# EAGLE library part XC18V01_VQ44 (library xilinx-xc18v)
xc18v01_vq44 edit this description Auto generated by make-symbol-device-package-bsdl.ulp Rev. 26 Source: xc18v01_vq44.bsd
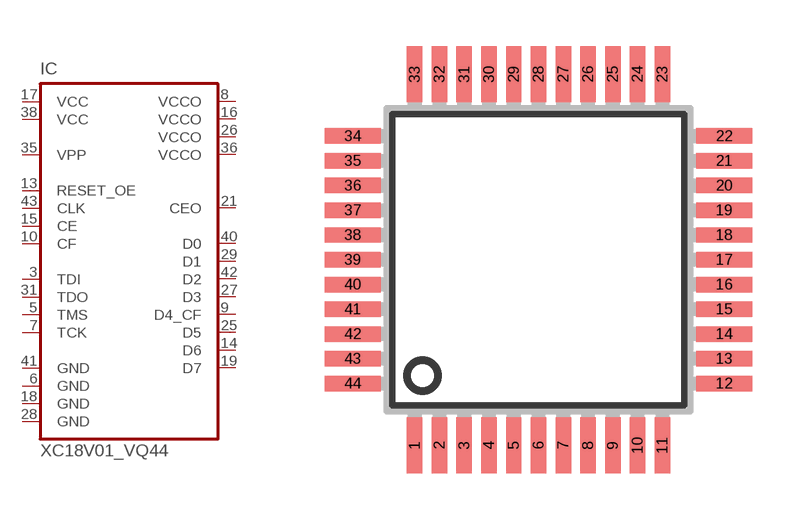
[diagram p2: symbol with the pads of SQFP-S-10X10-44; footprint SQFP-S-10X10-44]

Designator prefix IC

## XC18V01_VQ44 (OC_FARNELL: unknown; OC_NEWARK: unknown)  [SQFP-S-10X10-44]
3  TDI  in
5  TMS  in
6  GND  pwr
7  TCK  in
8  VCCO  pwr
9  D4_CF  out
10  CF  out
13  RESET_OE
14  D6  out
15  CE  in
16  VCCO  pwr
17  VCC  pwr
18  GND  pwr
19  D7  out
21  CEO  out
25  D5  out
26  VCCO  pwr
27  D3  out
28  GND  pwr
29  D1  out
31  TDO  out
35  VPP  pas
36  VCCO  pwr
38  VCC  pwr
40  D0  out
41  GND  pwr
42  D2  out
43  CLK  in

## Footprint SQFP-S-10X10-44 (pad centres in mm)
QFP44 shrink quad flat pack, square
smd 0.5 x 1.8: 1 -4,-6; 2 -3.2,-6; 3 -2.4,-6; 4 -1.6,-6; 5 -0.8,-6; 6 0,-6; 7 0.8,-6; 8 1.6,-6; 9 2.4,-6; 10 3.2,-6; 11 4,-6; 23 4,6; 24 3.2,6; 25 2.4,6; 26 1.6,6; 27 0.8,6; 28 0,6; 29 -0.8,6; 30 -1.6,6; 31 -2.4,6; 32 -3.2,6; 33 -4,6
smd 1.8 x 0.5: 12 6,-4; 13 6,-3.2; 14 6,-2.4; 15 6,-1.6; 16 6,-0.8; 17 6,0; 18 6,0.8; 19 6,1.6; 20 6,2.4; 21 6,3.2; 22 6,4; 34 -6,4; 35 -6,3.2; 36 -6,2.4; 37 -6,1.6; 38 -6,0.8; 39 -6,0; 40 -6,-0.8; 41 -6,-1.6; 42 -6,-2.4; 43 -6,-3.2; 44 -6,-4